# Altium footprint library SIHB12N60E-GE3.PCBLIB: 1 footprints
Each footprint in its own frame and in the unit in brackets; x right, y up, seen from the top. Pads: shape width x height; smd on the part's side, far side on the other; paste and mask are expansions set on the pad; w line width, h text height; cw(c..) or ccw(c..) is an arc to the next point about the centre after c.
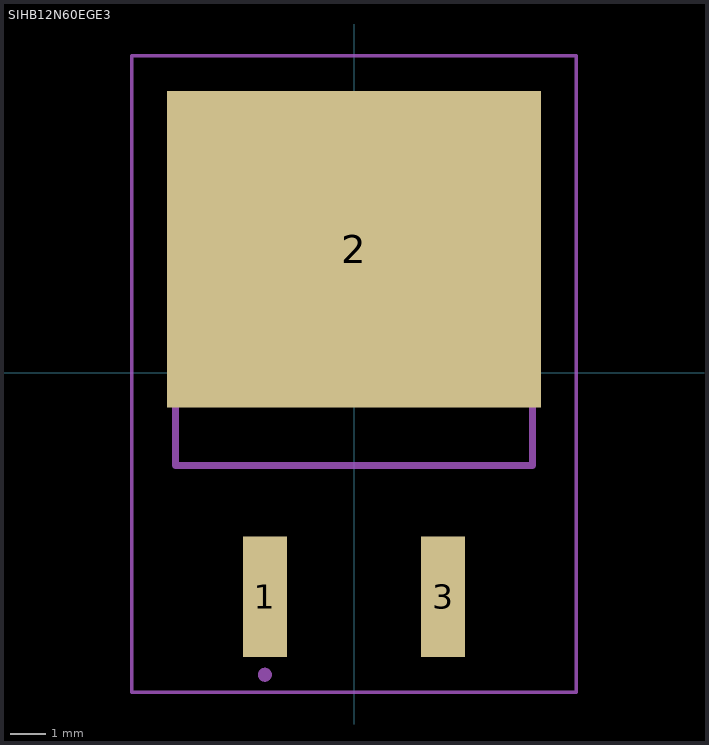
[diagram p0: the footprint, top view; thin cyan lines are the x and y axes]

## SIHB12N60EGE3 [mil]
pads (3):
  rect 49.49x135 smd: 1(-100,-251.26) 3(100,-251.26)
  rect 420x355 smd: 2(0,138.74)
tDocu:
  lines w3.94: -249.37,-358.15 249.37,-358.15 249.37,355.59 -249.37,355.59 -249.37,-358.15
  lines w7.87: -200,-103.66 200,-103.66 200,251.26 -200,251.26 -200,-103.66
tPlace:
  lines w3.94: -200,-63.7 -200,-103.07 200,-103.07 200,-63.7
  lines w7.87: -100,-342.52 cw(c-100,-338.58) -100,-334.65 ; -100,-342.52 -100,-342.52 ; -100,-342.52 ccw(c-100,-338.58) -100,-334.65 ; -100,-334.65 -100,-334.65